# EAGLE library part BD6212 (library FaBo-Motor)
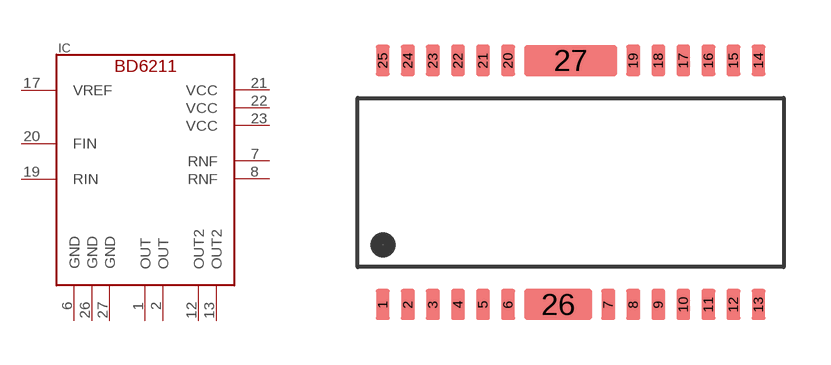
[diagram p8: symbol with the pads of HSOP25; footprint HSOP25]

Designator prefix IC

## BD6212  [HSOP25]
1  OUT
2  OUT
6  GND
7  RNF
8  RNF
12  OUT2
13  OUT2
17  VREF
19  RIN
20  FIN
21  VCC
22  VCC
23  VCC
26  GND
27  GND

## Footprint HSOP25 (pad centres in mm)
smd 0.45 x 1: 1 -6,-3.9; 2 -5.2,-3.9; 3 -4.4,-3.9; 4 -3.6,-3.9; 5 -2.8,-3.9; 6 -2,-3.9; 7 1.2,-3.9; 8 2,-3.9; 9 2.8,-3.9; 10 3.6,-3.9; 11 4.4,-3.9; 12 5.2,-3.9; 13 6,-3.9; 14 6,3.9; 15 5.2,3.9; 16 4.4,3.9; 17 3.6,3.9; 18 2.8,3.9; 19 2,3.9; 20 -2,3.9; 21 -2.8,3.9; 22 -3.6,3.9; 23 -4.4,3.9; 24 -5.2,3.9; 25 -6,3.9
smd 2.15 x 1: 26 -0.4,-3.9
smd 2.95 x 1: 27 0,3.9